# Altium schematic symbol library IC.Sensors.SchLib: 3 symbols
Pins are listed as number, name and electrical type; pins without a type are passive.

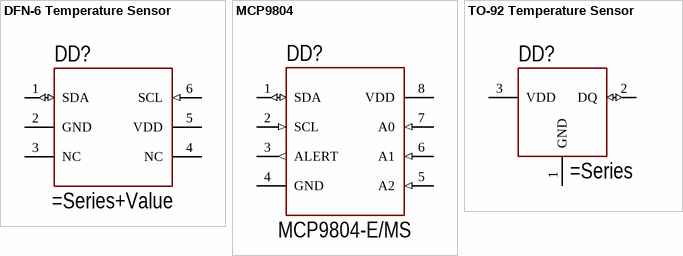
[diagram p0: symbols DFN-6 Temperature Sensor to TO-92 Temperature Sensor]

## DFN-6 Temperature Sensor
designator DD?
I2C Humidity And Temperature Sensor
pins: 1 SDA (io), 2 GND, 3 NC, 4 NC, 5 VDD, 6 SCL (in), PAD GND hidden to GND

## MCP9804
designator DD?, comment MCP9804-E/MS
±0.25°C Typical Accuracy Digital Temperature Sensor, -40°C to +125°C; Part: MCP9804; Package: MS; Temperature: E
pins: 1 SDA (io), 2 SCL (in), 3 ALERT (out), 4 GND, 5 A2 (in), 6 A1 (in), 7 A0 (in), 8 VDD

## TO-92 Temperature Sensor
designator DD?
1-Wire Temperature Sensor
pins: 1 GND, 2 DQ (io), 3 VDD